# Altium integrated library 10129381-920001BLF.IntLib: 1 symbol
Pins are listed as number, name and electrical type; pins without a type are passive.

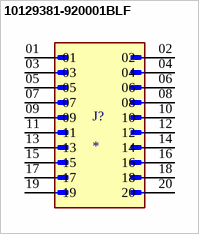
[diagram p0: symbol 10129381-920001BLF]

## 10129381-920001BLF
designator J?
EconoStikâ„¢, Board to Board connector, Unshrouded Vertical Header, Through Hole, Double Row, 20 Positions, 2.54 mm (0.100in) Pitch.; MP: 10129381-920001BLF; MF: Amphenol ICC (FCI); Digi-Key_Part_Number: 10129381-920001BLF-ND; Package: None; Purchase-URL: https://pricing.snapeda.com/search/part/10129381-920001BLF/?ref=eda; SnapEDA_Link: https://www.snapeda.com/parts/10129381-920001BLF/Amphenol+FCI/view-part/?ref=snap; Check_prices: https://www.snapeda.com/parts/10129381-920001BLF/Amphenol+FCI/view-part/?ref=eda; Value: *
footprint AMPHENOL_10129381-920001BLF
pins: 01, 02, 03, 04, 05, 06, 07, 08, 09, 10, 11, 12, 13, 14, 15, 16, 17, 18, 19, 20